# Altium footprint library Capacitors.PcbLib: 5 footprints
Each footprint in its own frame and in the unit in brackets; x right, y up, seen from the top. Pads: shape width x height; smd on the part's side, far side on the other; paste and mask are expansions set on the pad; w line width, h text height; cw(c..) or ccw(c..) is an arc to the next point about the centre after c.
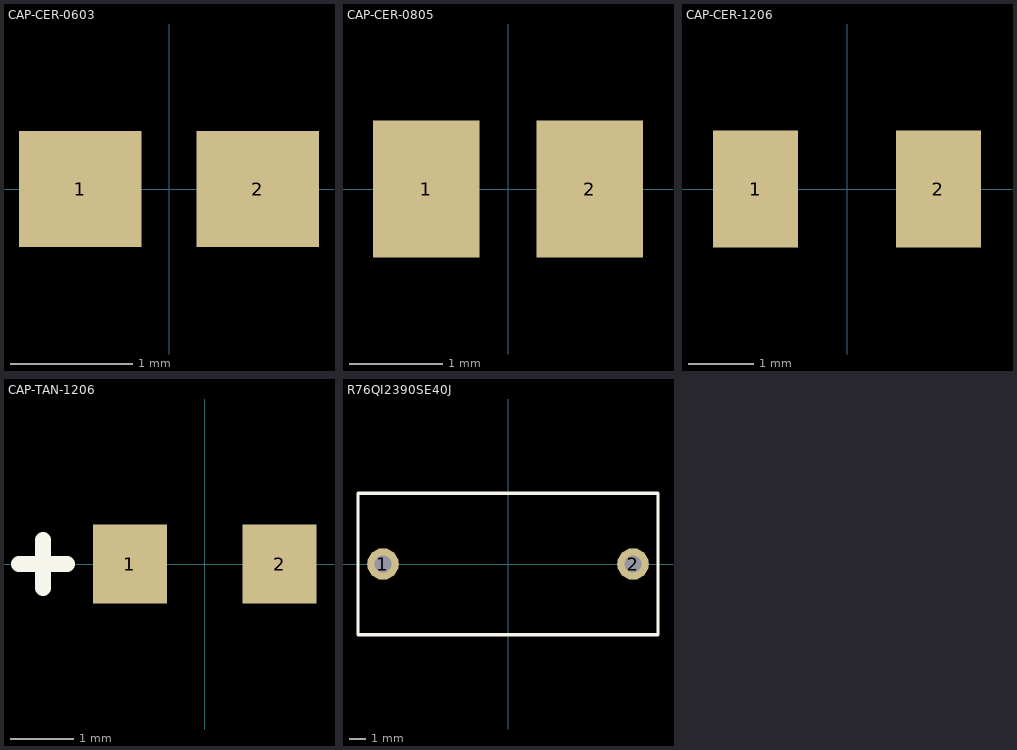
[diagram p0: the footprints below, top view; thin cyan lines are the x and y axes]

## CAP-CER-0603 [mm]
pads (2):
  rect 1.006x0.95 smd paste+0: 1(-0.728,0) 2(0.728,0)
3D body "C0603C104K5RAC7867.step": height 0.95, standoff 0, extent -0.9,-0.5 0.85,0.45

## CAP-CER-0805 [mm]
pads (2):
  rect 1.15x1.47 smd: 1(-0.88,0) 2(0.88,0)
3D body "CAPC2012X150N.step": height 1.28, standoff 0.03, extent -1,-0.75 1,0.75

## CAP-CER-1206 [mm]
pads (2):
  rect 1.306x1.8 smd paste+0: 1(-1.403,0) 2(1.403,0)
3D body "Ceramic_Capacitor_1206_h32mil.step": height 0.81, standoff 0.01, extent -1.6,-0.8 1.6,0.8

## CAP-TAN-1206 [mm]
pads (2):
  rect 1.177x1.249 smd paste+0: 1(-1.188,0) 2(1.188,0)
Top Overlay:
  lines w0.254: -2.946,0 -2.184,0 ; -2.565,-0.381 -2.565,0.381
3D body "CAPT-TAN-1206.STEP": height 1.8, standoff 0, extent -1.7,-0.9 1.7,0.9

## R76QI2390SE40J [mm]
pads (2):
  round 1.9 hole 1: 1(-7.5,0) 2(7.5,0)
Top Overlay:
  lines w0.2: -9,-4.25 9,-4.25 9,4.25 -9,4.25 -9,-4.25
3D body "R76QI2390SE40J.step": height 14.85, standoff -5.75, extent -9.25,-4.355 9.25,4.35